# EAGLE library part MTJ-880X1 (library CONNECTORs)
Jack Modular Connector 8p8c (RJ45, Ethernet) 90° Angle (Right) Unshielded
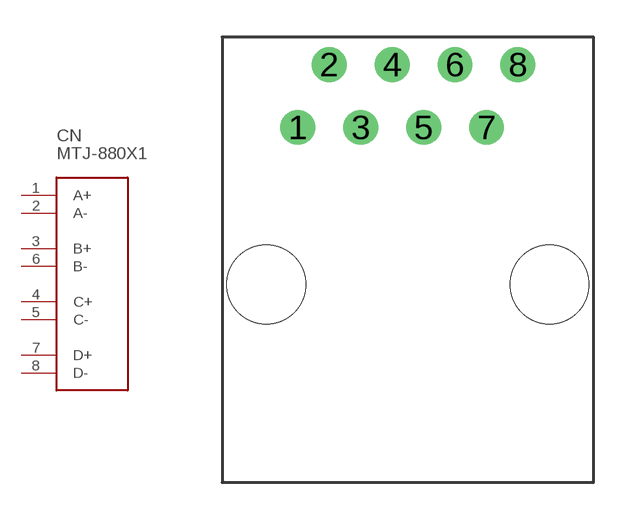
[diagram p89: symbol with the pads of MTJ-880X1; footprint MTJ-880X1]

Designator prefix CN

## MTJ-880X1 (DIGIKEY: 2057-MTJ-880X1-ND; HEIGHT: 13; PRICE_PER: 0.38; VALUE: 8P8C)  [MTJ-880X1]
1  A+
2  A-
3  B+
4  C+
5  C-
6  B-
7  D+
8  D-

## Footprint MTJ-880X1 (pad centres in mm)
drill 0.9: 1 -4.445,5.35; 2 -3.175,7.89; 3 -1.905,5.35; 4 -0.635,7.89; 5 0.635,5.35; 6 1.905,7.89; 7 3.175,5.35; 8 4.445,7.89
hole 3.17 at -5.715,-1
hole 3.17 at 5.715,-1